# EAGLE library part MAX7221 (library NEWPARTS)
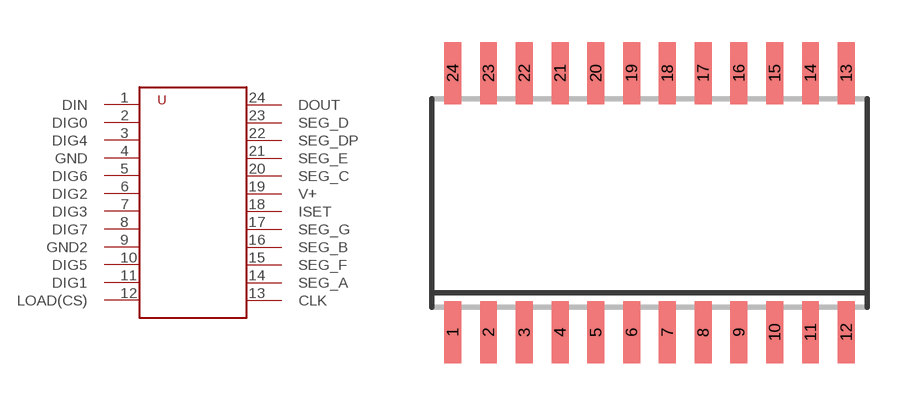
[diagram p10: symbol with the pads of SO24W; footprint SO24W]

Designator prefix -

## MAX7221  [SO24W]
1  DIN
2  DIG0
3  DIG4
4  GND
5  DIG6
6  DIG2
7  DIG3
8  DIG7
9  GND2
10  DIG5
11  DIG1
12  LOAD(CS)
13  CLK
14  SEG_A
15  SEG_F
16  SEG_B
17  SEG_G
18  ISET
19  V+
20  SEG_C
21  SEG_E
22  SEG_DP
23  SEG_D
24  DOUT

## Footprint SO24W (pad centres in mm)
smd 0.6 x 2.2: 1 -6.985,-4.6; 2 -5.715,-4.6; 3 -4.445,-4.6; 4 -3.175,-4.6; 5 -1.905,-4.6; 6 -0.635,-4.6; 7 0.635,-4.6; 8 1.905,-4.6; 9 3.175,-4.6; 10 4.445,-4.6; 11 5.715,-4.6; 12 6.985,-4.6; 13 6.985,4.6; 14 5.715,4.6; 15 4.445,4.6; 16 3.175,4.6; 17 1.905,4.6; 18 0.635,4.6; 19 -0.635,4.6; 20 -1.905,4.6; 21 -3.175,4.6; 22 -4.445,4.6; 23 -5.715,4.6; 24 -6.985,4.6